# Altium schematic symbol library C0603C103K5RAC.SchLib: 1 symbol
Pins are listed as number, name and electrical type; pins without a type are passive.

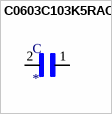
[diagram p0: symbol C0603C103K5RAC]

## C0603C103K5RAC
designator C
10000pF Â± 10% Tá»¥ gá»‘m 50V X7R 0603 (1608 Metric); MF: KEMET; MP: C0603C103K5RAC; Price: None; Mouser-Purchase-URL: https://snapeda.com/shop?store=Mouser&id=4218692; Availability: Good; Package: 0603 KEMET; SnapEDA_Link: https://www.snapeda.com/parts/C0603C103K5RAC/KEMET/view-part/4218692/?ref=snap; Value: *; Arrow_Electronics-Purchase-URL: https://snapeda.com/shop?store=Arrow+Electronics&id=4218692
footprint CAPC1608X90
pins: 1, 2